# Altium integrated library Linear Technology PMIC-Switching Reg LT1074-LT8705.IntLib: 2252 symbols (part 80 of 124)
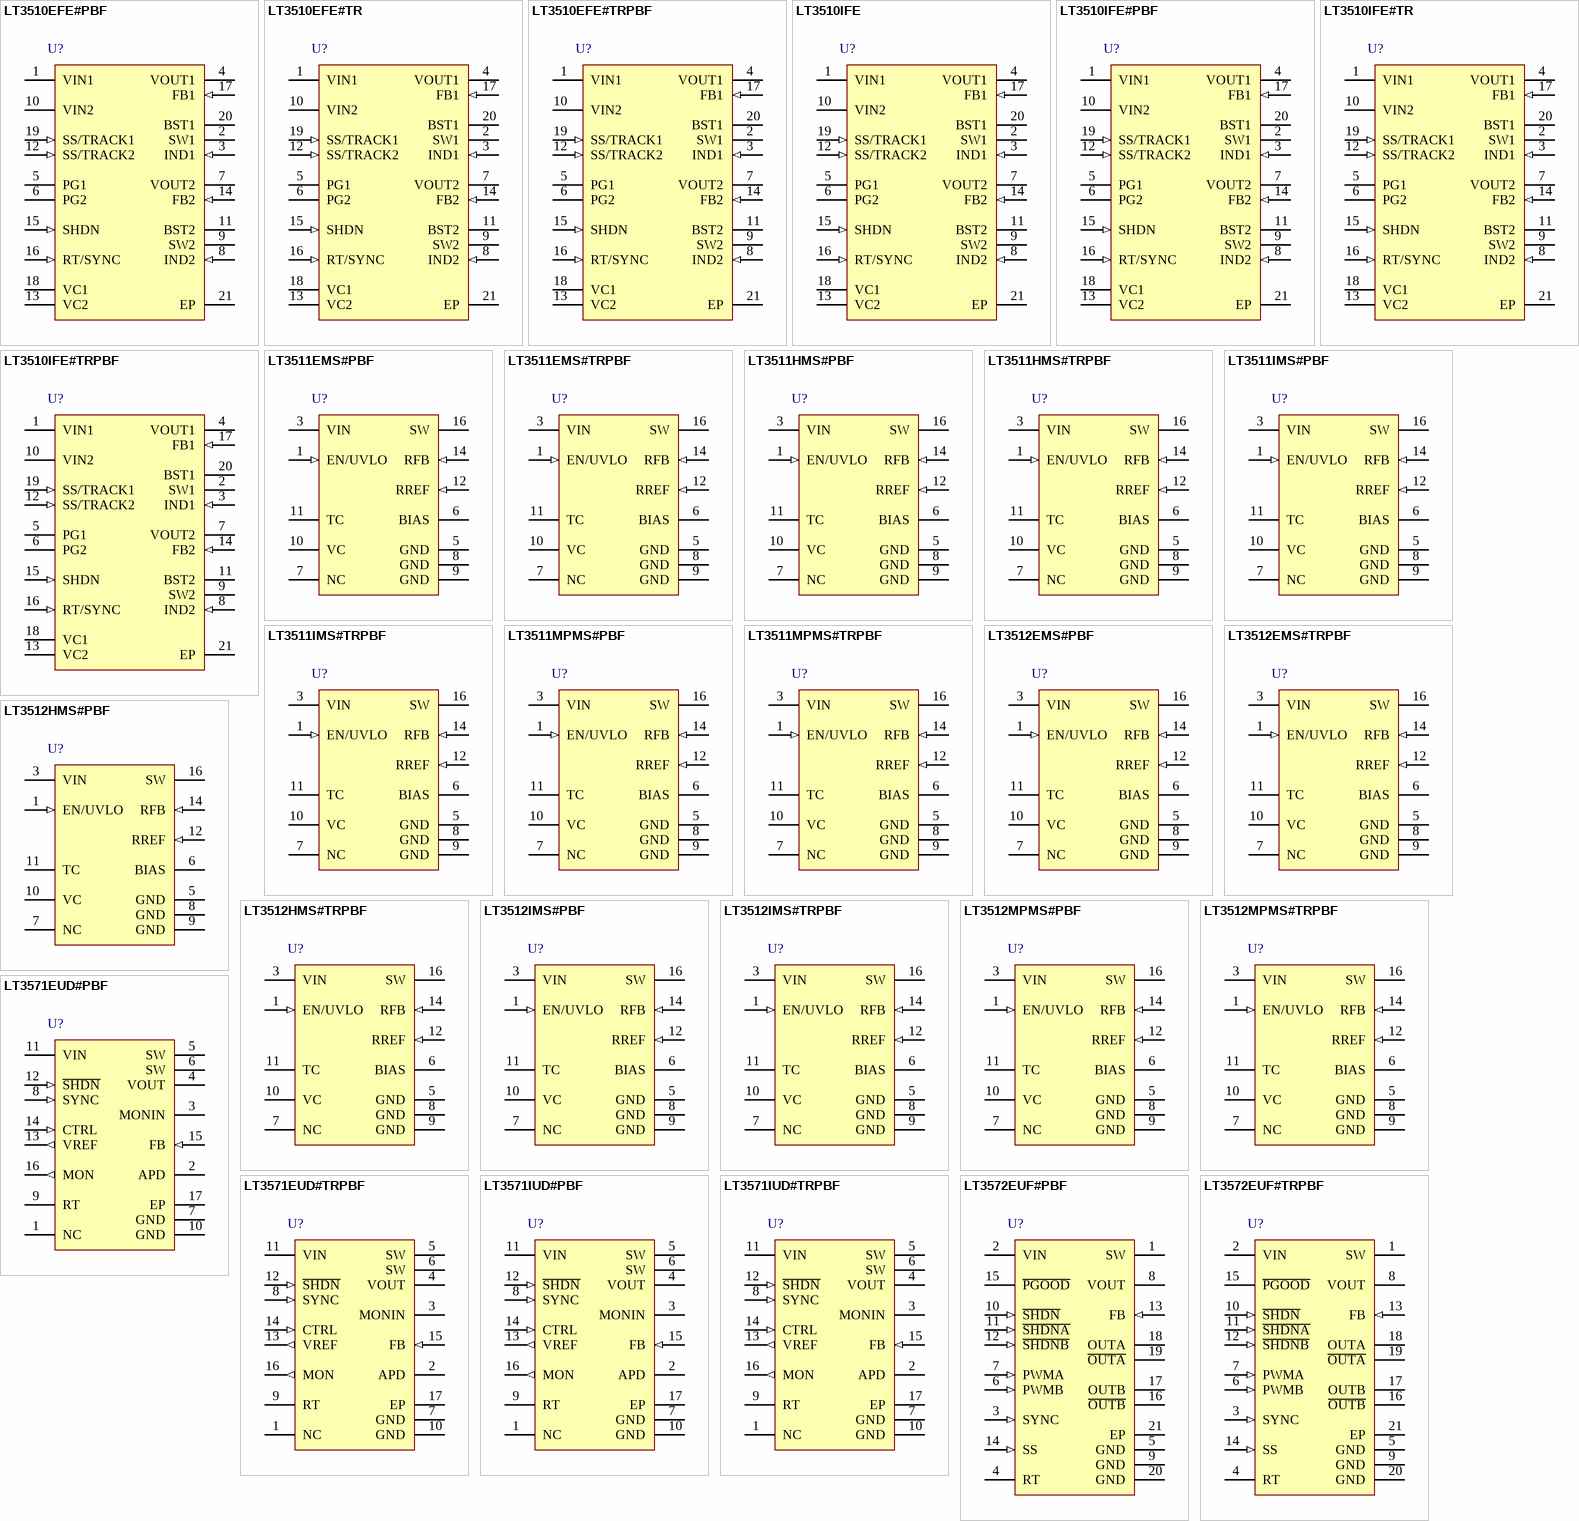
[diagram p150: symbols LT3510EFE#PBF to LT3572EUF#TRPBF]

## LT3571IUD#TRPBF
designator U?
DC/DC Converter for APD Bias, 16-pin QFN (UD-16), -40 to 125 degC, Pb-Free, Tape and Reel; Manufacturer: Linear Technology; PartNumber: LT3571IUD#TRPBF; Number of Outputs: 1; PackageReference: UD-16; PackageDescription: 16-Pin Plastic QFN, Body 3 x 3 mm, Pitch 0.5 mm; Supplier 1: Digi-Key; Supplier Part Number 1: LT3571IUD#TRPBF-ND; RoHS: TRUE
footprint LT-UD-16_N (QFN, 16-Leads, Body 3x3mm, Pitch 0.5mm, Thermal Pad 1.45x1.45mm, IPC Medium Density)
footprint LT-UD-16_L (QFN, 16-Leads, Body 3x3mm, Pitch 0.5mm, Thermal Pad 1.45x1.45mm, IPC High Density)
footprint LT-UD-16_M (QFN, 16-Leads, Body 3x3mm, Pitch 0.5mm, Thermal Pad 1.45x1.45mm, IPC Low Density)
pins: 1 NC "No Connect", 2 APD "APD Cathode Pin. Connect APD cathode to this pin.", 3 MONIN (power) "Current Monitor Power Supply Pin. An external lowpass filter can be included here to further reduce supply voltage ripple. This pin also serves as the inverting input of the current sense amplifier. Put a sense resistor (See Datasheet)", 4 VOUT (power) "Boost Output Pin. Put a capacitor between this pin and GND plane. Minimize the length of the trace to the capacitor. Also serves as the noninverting input of the current sense amplifier.", 5 SW "Switch Pin. Minimize the trace length on this pin to reduce EMI.", 6 SW "Switch Pin. Minimize the trace length on this pin to reduce EMI.", 7 GND (power) "Ground. Pins connected internally. For best performance, connect both pins to board ground.", 8 SYNC (in) "Frequency Synchronization Pin. Connect an external clock signal here. RT resistor should be chosen to program a switching frequency 20% slower than the SYNC pulse frequency. Synchronization (switch turn-on) occurs a fixed (See Datasheet)", 9 RT "Switching Frequency Pin. Set switching frequency using a resistor to GND (see Typical Performance Characteristics for values). For SYNC function, choose the resistor to program a frequency 20% slower than the SYNC pulse (See Datasheet)", 10 GND (power) "Ground. Pins connected internally. For best performance, connect both pins to board ground.", 11 VIN (power) "Input Supply Pin. This pin must be locally bypassed.", 12 ~{SHDN} (in) "Shutdown Pin. Tie to 1.5V or higher to enable device; 0.4V or less to disable device. Also functions as soft-start. Use RC filter as shown in Figure 1.", 13 VREF (out) "Reference Output Pin. This pin can supply up to 100uA. Do not over drive this pin. Bypass with a 10nF or larger capacitor.", 14 CTRL (in) "Internal Reference Override Pin. The CTRL pin allows the FB voltage to be externally adjusted between 0V and 1V to adjust the output voltage. Tie this pin higher than 1.2V to use the internal reference of 1V.", 15 FB (in) "Feedback Pin. Connect to output resistor divider tap.", 16 MON (out) "Current Monitor Output Pin. Sources a current equal to 20% of the APD current and converts to a reference voltage through an external resistor", 17 EP (power) "Ground. The Exposed Pad must be soldered to the PCB."

## LT3572EUF#PBF
designator U?
Dual Full-Bridge Piezo Driver with 900 mA Boost Converter, 20-pin QFN (UF-20), -40 to 85 degC, Pb-Free; Manufacturer: Linear Technology; PartNumber: LT3572EUF#PBF; Number of Outputs: 1; PackageReference: UF20; PackageDescription: 20-Pin Plastic QFN, Body 4 x 4 mm, Pitch 0.5 mm; Supplier 1: Digi-Key; Supplier Part Number 1: LT3572EUF#PBF-ND; RoHS: TRUE
footprint LT-UF-20_N (QFN, 20-Leads, Body 4.1x4.1mm, Pitch 0.5mm, Thermal Pad 2.45x2.45mm, IPC Medium Density)
footprint LT-UF-20_L (QFN, 20-Leads, Body 4.1x4.1mm, Pitch 0.5mm, Thermal Pad 2.45x2.45mm, IPC High Density)
footprint LT-UF-20_M (QFN, 20-Leads, Body 4.1x4.1mm, Pitch 0.5mm, Thermal Pad 2.45x2.45mm, IPC Low Density)
pins: 1 SW (power) "Switch Node. This pin connects to the collector of an internal NPN power switch.", 2 VIN (power) "Input Supply Pin. This pin must be locally bypassed with a capacitor.", 3 SYNC (in) "Synchronization Pin. This pin is used to synchronize the internal oscillator to an external signal. The synchronizing range is 15% above the free running frequency set by the RT pin up to 2.5MHz. If not used, this pin must (See Datasheet)", 4 RT "Frequency Set Pin. Place a resistor to GND to set the internal frequency. The range of oscillation is 500kHz to 2.25MHz.", 5 GND (power) "Ground.", 6 PWMB (in) "Logic Input for the Driver. A high signal on this input sets OUTB high and O\U\T\B\ low.", 7 PWMA (in) "Logic Input for the Driver. A high signal on this input sets OUTA high and O\U\T\A\ low.", 8 VOUT (power) "Output for the Switching Regulator and the Input Supply for the Drivers.", 9 GND (power) "Ground.", 10 ~{SHDN} (in) "Shutdown Pin. Tie to 1.5V or more to enable the switcher. Pull low to disable the switcher.", 11 ~{SHDNA} (in) "Shutdown Pin. Tie to 1.5V or more to enable OUTA and O\U\T\A\. Pull low to place OUTA and O\U\T\A\ in a high impedance state.", 12 ~{SHDNB} (in) "Shutdown Pin. Tie to 1.5V or more to enable OUTB and O\U\T\B\. Pull low to place OUTB and O\U\T\B\ in a high impedance state.", 13 FB (in) "Feedback Pin. The LT3572 regulates this pin to 1.225V. Connect the feedback resistors to this pin to set the output voltage for the switching regulator.", 14 SS (in) "Soft-Start Pin. Place a soft-start capacitor here. A capacitor on the soft-start pin slowly ramps the current limit of the part from 0A to 1.3A.", 15 ~{PGOOD} (hiz) "This pin is an open-drain output that pulls low when the FB pin is within 95% of its regulation value.", 16 ~{OUTB} (hiz) "The Output Driver. This node switches between VOUT and GND and is inverted from OUTB.", 17 OUTB (hiz) "The Output Driver. This node switches between VOUT and GND.", 18 OUTA (hiz) "The Output Driver. This node switches between VOUT and GND .", 19 ~{OUTA} (hiz) "The Output Driver. This node switches between VOUT and GND and is inverted from OUTA.", 20 GND (power) "Ground.", 21 EP (power) "Ground. The Exposed Pad of the package provides both electrical contact to ground and good thermal contact to the printed circuit board. The Exposed Pad must be soldered to the circuit board for proper operation."

## LT3572EUF#TRPBF
designator U?
Dual Full-Bridge Piezo Driver with 900 mA Boost Converter, 20-pin QFN (UF-20), -40 to 85 degC, Pb-Free, Tape and Reel; Manufacturer: Linear Technology; PartNumber: LT3572EUF#TRPBF; Number of Outputs: 1; PackageReference: UF20; PackageDescription: 20-Pin Plastic QFN, Body 4 x 4 mm, Pitch 0.5 mm; Supplier 1: Digi-Key; Supplier Part Number 1: LT3572EUF#TRPBF-ND; RoHS: TRUE
footprint LT-UF-20_N (QFN, 20-Leads, Body 4.1x4.1mm, Pitch 0.5mm, Thermal Pad 2.45x2.45mm, IPC Medium Density)
footprint LT-UF-20_L (QFN, 20-Leads, Body 4.1x4.1mm, Pitch 0.5mm, Thermal Pad 2.45x2.45mm, IPC High Density)
footprint LT-UF-20_M (QFN, 20-Leads, Body 4.1x4.1mm, Pitch 0.5mm, Thermal Pad 2.45x2.45mm, IPC Low Density)
pins: 1 SW (power) "Switch Node. This pin connects to the collector of an internal NPN power switch.", 2 VIN (power) "Input Supply Pin. This pin must be locally bypassed with a capacitor.", 3 SYNC (in) "Synchronization Pin. This pin is used to synchronize the internal oscillator to an external signal. The synchronizing range is 15% above the free running frequency set by the RT pin up to 2.5MHz. If not used, this pin must (See Datasheet)", 4 RT "Frequency Set Pin. Place a resistor to GND to set the internal frequency. The range of oscillation is 500kHz to 2.25MHz.", 5 GND (power) "Ground.", 6 PWMB (in) "Logic Input for the Driver. A high signal on this input sets OUTB high and O\U\T\B\ low.", 7 PWMA (in) "Logic Input for the Driver. A high signal on this input sets OUTA high and O\U\T\A\ low.", 8 VOUT (power) "Output for the Switching Regulator and the Input Supply for the Drivers.", 9 GND (power) "Ground.", 10 ~{SHDN} (in) "Shutdown Pin. Tie to 1.5V or more to enable the switcher. Pull low to disable the switcher.", 11 ~{SHDNA} (in) "Shutdown Pin. Tie to 1.5V or more to enable OUTA and O\U\T\A\. Pull low to place OUTA and O\U\T\A\ in a high impedance state.", 12 ~{SHDNB} (in) "Shutdown Pin. Tie to 1.5V or more to enable OUTB and O\U\T\B\. Pull low to place OUTB and O\U\T\B\ in a high impedance state.", 13 FB (in) "Feedback Pin. The LT3572 regulates this pin to 1.225V. Connect the feedback resistors to this pin to set the output voltage for the switching regulator.", 14 SS (in) "Soft-Start Pin. Place a soft-start capacitor here. A capacitor on the soft-start pin slowly ramps the current limit of the part from 0A to 1.3A.", 15 ~{PGOOD} (hiz) "This pin is an open-drain output that pulls low when the FB pin is within 95% of its regulation value.", 16 ~{OUTB} (hiz) "The Output Driver. This node switches between VOUT and GND and is inverted from OUTB.", 17 OUTB (hiz) "The Output Driver. This node switches between VOUT and GND.", 18 OUTA (hiz) "The Output Driver. This node switches between VOUT and GND .", 19 ~{OUTA} (hiz) "The Output Driver. This node switches between VOUT and GND and is inverted from OUTA.", 20 GND (power) "Ground.", 21 EP (power) "Ground. The Exposed Pad of the package provides both electrical contact to ground and good thermal contact to the printed circuit board. The Exposed Pad must be soldered to the circuit board for proper operation."

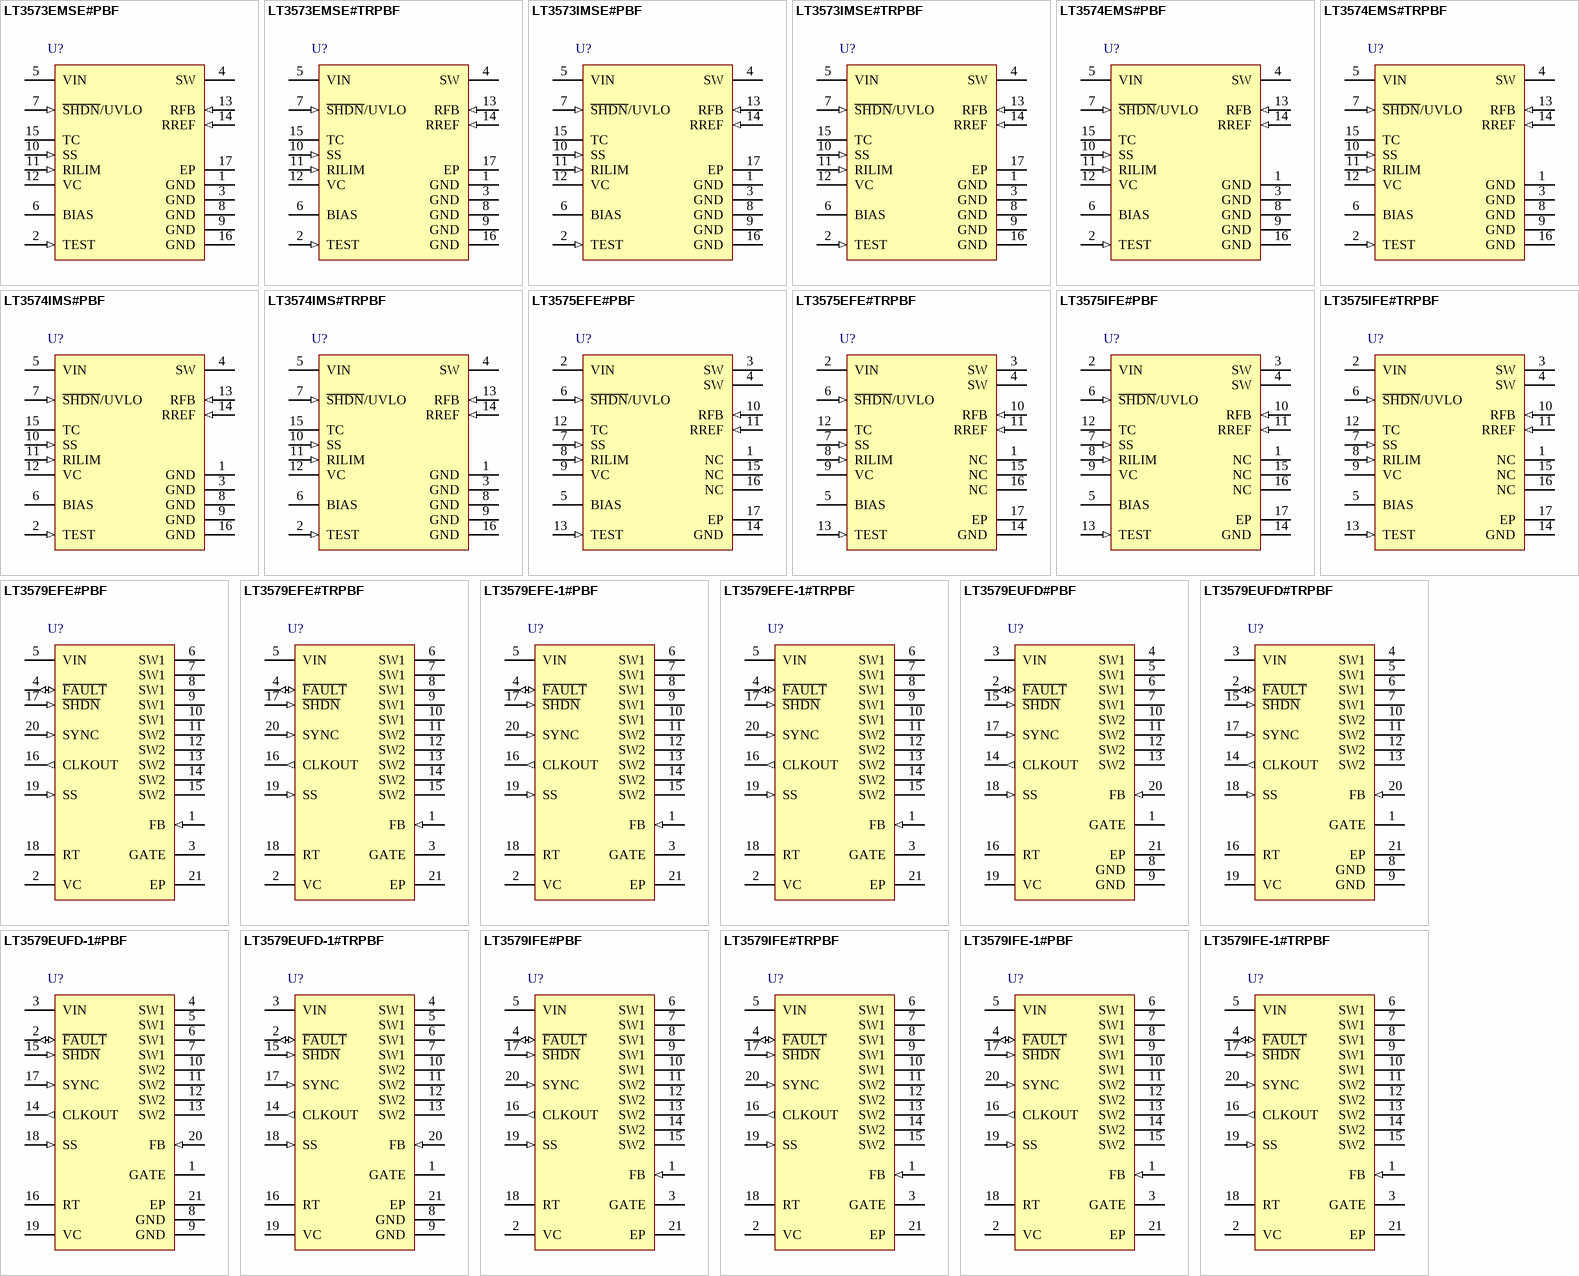
[diagram p48: symbols LT3573EMSE#PBF to LT3579IFE-1#TRPBF]

## LT3573EMSE#PBF
designator U?
Isolated Flyback Converter without an Opto-Coupler, 16-pin SOP (MSE-16-EDP), -40 to 125 deC, Pb-Free; Manufacturer: Linear Technology; PartNumber: LT3573EMSE#PBF; Number of Outputs: 1; PackageReference: MSE-16; PackageDescription: 16-Pin Plastic MSOP, Exposed Die Pad, Body 4.039 x 3 mm, Pitch 0.5 mm; Supplier 1: Digi-Key; Supplier Part Number 1: LT3573EMSE#PBF-ND; RoHS: TRUE
footprint LT-MSE-16-EDP_N (SOP, 16-Leads, Body 4.1x3.1mm, Pitch 0.5mm, Thermal Pad 2.95x1.76mm, IPC Medium Density)
footprint LT-MSE-16-EDP_L (SOP, 16-Leads, Body 4.1x3.1mm, Pitch 0.5mm, Thermal Pad 2.95x1.76mm, IPC High Density)
footprint LT-MSE-16-EDP_M (SOP, 16-Leads, Body 4.1x3.1mm, Pitch 0.5mm, Thermal Pad 2.95x1.76mm, IPC Low Density)
pins: 1 GND (power) "Ground.", 2 TEST (in) "This pin is used for testing purposes only and must be connected to ground for the part to operate properly.", 3 GND (power) "Ground.", 4 SW (power) "Collector Node of the Output Switch. This pin has large currents flowing through it. Keep the traces to the switching components as short as possible to minimize electromagnetic radiation and voltage spikes.", 5 VIN (power) "Input Voltage. This pin supplies current to the internal start-up circuitry and as a reference voltage for the DCM comparator and feedback circuitry. This pin must be locally bypassed with a capacitor.", 6 BIAS (power) "Bias Voltage. This pin supplies current to the switch driver and internal circuitry of the LT3573. This pin must be locally bypassed with a capacitor. This pin may also be connected to VIN if a third winding is not used and (See Datasheet)", 7 ~{SHDN}/UVLO (in) "Shutdown/Undervoltage Lockout. A resistor divider connected to VIN is tied to this pin to program the minimum input voltage at which the LT3573 will operate. At a voltage below ~0.7V, the part draws no quiescent current. (See Datasheet)", 8 GND (power) "Ground.", 9 GND (power) "Ground.", 10 SS (in) "Soft-Start Pin. Place a soft-start capacitor here to limit start-up inrush current and output voltage ramp rate. Switching starts when the voltage at this pin reaches ~0.7V.", 11 RILIM (in) "Maximum Current Limit Adjust Pin. A resistor should be tied to this pin to ground to set the current limit. Use a 10k resistor for the full current capabilities of the switch.", 12 VC "Compensation Pin for Internal Error Amplifier. Connect a series RC from this pin to ground to compensate the switching regulator. A 100pF capacitor in parallel helps eliminate noise.", 13 RFB (in) "Input Pin for External Feedback Resistor. This pin is connected to the transformer primary (VSW). The ratio of this resistor to the RREF resistor, times the internal bandgap reference, determines the output voltage (plus the (See Datasheet)", 14 RREF (in) "Input Pin for External Ground-Referred Reference Resistor. This resistor should be in the range of 6k, but for convenience, need not be precisely this value. For nonisolated applications, a traditional resistor voltage (See Datasheet)", 15 TC "Output Voltage Temperature Compensation. Connect a resistor to ground to produce a current proportional to absolute temperature to be sourced into the RREF node. ITC = 0.55V/RTC.", 16 GND (power) "Ground.", 17 EP (power) "Ground. The Exposed Pad of the package provides both electrical contact to ground and good thermal contact to the printed circuit board. The Exposed Pad must be soldered to the circuit board for proper operation and should (See Datasheet)"

## LT3573EMSE#TRPBF
designator U?
Isolated Flyback Converter without an Opto-Coupler, 16-pin SOP (MSE-16-EDP), -40 to 125 deC, Pb-Free, Tape and Reel; Manufacturer: Linear Technology; PartNumber: LT3573EMSE#TRPBF; Number of Outputs: 1; PackageReference: MSE-16; PackageDescription: 16-Pin Plastic MSOP, Exposed Die Pad, Body 4.039 x 3 mm, Pitch 0.5 mm; Supplier 1: Digi-Key; Supplier Part Number 1: LT3573EMSE#TRPBF-ND; RoHS: TRUE
footprint LT-MSE-16-EDP_N (SOP, 16-Leads, Body 4.1x3.1mm, Pitch 0.5mm, Thermal Pad 2.95x1.76mm, IPC Medium Density)
footprint LT-MSE-16-EDP_L (SOP, 16-Leads, Body 4.1x3.1mm, Pitch 0.5mm, Thermal Pad 2.95x1.76mm, IPC High Density)
footprint LT-MSE-16-EDP_M (SOP, 16-Leads, Body 4.1x3.1mm, Pitch 0.5mm, Thermal Pad 2.95x1.76mm, IPC Low Density)
pins: 1 GND (power) "Ground.", 2 TEST (in) "This pin is used for testing purposes only and must be connected to ground for the part to operate properly.", 3 GND (power) "Ground.", 4 SW (power) "Collector Node of the Output Switch. This pin has large currents flowing through it. Keep the traces to the switching components as short as possible to minimize electromagnetic radiation and voltage spikes.", 5 VIN (power) "Input Voltage. This pin supplies current to the internal start-up circuitry and as a reference voltage for the DCM comparator and feedback circuitry. This pin must be locally bypassed with a capacitor.", 6 BIAS (power) "Bias Voltage. This pin supplies current to the switch driver and internal circuitry of the LT3573. This pin must be locally bypassed with a capacitor. This pin may also be connected to VIN if a third winding is not used and (See Datasheet)", 7 ~{SHDN}/UVLO (in) "Shutdown/Undervoltage Lockout. A resistor divider connected to VIN is tied to this pin to program the minimum input voltage at which the LT3573 will operate. At a voltage below ~0.7V, the part draws no quiescent current. (See Datasheet)", 8 GND (power) "Ground.", 9 GND (power) "Ground.", 10 SS (in) "Soft-Start Pin. Place a soft-start capacitor here to limit start-up inrush current and output voltage ramp rate. Switching starts when the voltage at this pin reaches ~0.7V.", 11 RILIM (in) "Maximum Current Limit Adjust Pin. A resistor should be tied to this pin to ground to set the current limit. Use a 10k resistor for the full current capabilities of the switch.", 12 VC "Compensation Pin for Internal Error Amplifier. Connect a series RC from this pin to ground to compensate the switching regulator. A 100pF capacitor in parallel helps eliminate noise.", 13 RFB (in) "Input Pin for External Feedback Resistor. This pin is connected to the transformer primary (VSW). The ratio of this resistor to the RREF resistor, times the internal bandgap reference, determines the output voltage (plus the (See Datasheet)", 14 RREF (in) "Input Pin for External Ground-Referred Reference Resistor. This resistor should be in the range of 6k, but for convenience, need not be precisely this value. For nonisolated applications, a traditional resistor voltage (See Datasheet)", 15 TC "Output Voltage Temperature Compensation. Connect a resistor to ground to produce a current proportional to absolute temperature to be sourced into the RREF node. ITC = 0.55V/RTC.", 16 GND (power) "Ground.", 17 EP (power) "Ground. The Exposed Pad of the package provides both electrical contact to ground and good thermal contact to the printed circuit board. The Exposed Pad must be soldered to the circuit board for proper operation and should (See Datasheet)"

## LT3573IMSE#PBF
designator U?
Isolated Flyback Converter without an Opto-Coupler, 16-pin SOP (MSE-16-EDP), -40 to 125 deC, Pb-Free; Manufacturer: Linear Technology; PartNumber: LT3573IMSE#PBF; Number of Outputs: 1; PackageReference: MSE-16; PackageDescription: 16-Pin Plastic MSOP, Exposed Die Pad, Body 4.039 x 3 mm, Pitch 0.5 mm; Supplier 1: Digi-Key; Supplier Part Number 1: LT3573IMSE#PBF-ND; RoHS: TRUE
footprint LT-MSE-16-EDP_N (SOP, 16-Leads, Body 4.1x3.1mm, Pitch 0.5mm, Thermal Pad 2.95x1.76mm, IPC Medium Density)
footprint LT-MSE-16-EDP_L (SOP, 16-Leads, Body 4.1x3.1mm, Pitch 0.5mm, Thermal Pad 2.95x1.76mm, IPC High Density)
footprint LT-MSE-16-EDP_M (SOP, 16-Leads, Body 4.1x3.1mm, Pitch 0.5mm, Thermal Pad 2.95x1.76mm, IPC Low Density)
pins: 1 GND (power) "Ground.", 2 TEST (in) "This pin is used for testing purposes only and must be connected to ground for the part to operate properly.", 3 GND (power) "Ground.", 4 SW (power) "Collector Node of the Output Switch. This pin has large currents flowing through it. Keep the traces to the switching components as short as possible to minimize electromagnetic radiation and voltage spikes.", 5 VIN (power) "Input Voltage. This pin supplies current to the internal start-up circuitry and as a reference voltage for the DCM comparator and feedback circuitry. This pin must be locally bypassed with a capacitor.", 6 BIAS (power) "Bias Voltage. This pin supplies current to the switch driver and internal circuitry of the LT3573. This pin must be locally bypassed with a capacitor. This pin may also be connected to VIN if a third winding is not used and (See Datasheet)", 7 ~{SHDN}/UVLO (in) "Shutdown/Undervoltage Lockout. A resistor divider connected to VIN is tied to this pin to program the minimum input voltage at which the LT3573 will operate. At a voltage below ~0.7V, the part draws no quiescent current. (See Datasheet)", 8 GND (power) "Ground.", 9 GND (power) "Ground.", 10 SS (in) "Soft-Start Pin. Place a soft-start capacitor here to limit start-up inrush current and output voltage ramp rate. Switching starts when the voltage at this pin reaches ~0.7V.", 11 RILIM (in) "Maximum Current Limit Adjust Pin. A resistor should be tied to this pin to ground to set the current limit. Use a 10k resistor for the full current capabilities of the switch.", 12 VC "Compensation Pin for Internal Error Amplifier. Connect a series RC from this pin to ground to compensate the switching regulator. A 100pF capacitor in parallel helps eliminate noise.", 13 RFB (in) "Input Pin for External Feedback Resistor. This pin is connected to the transformer primary (VSW). The ratio of this resistor to the RREF resistor, times the internal bandgap reference, determines the output voltage (plus the (See Datasheet)", 14 RREF (in) "Input Pin for External Ground-Referred Reference Resistor. This resistor should be in the range of 6k, but for convenience, need not be precisely this value. For nonisolated applications, a traditional resistor voltage (See Datasheet)", 15 TC "Output Voltage Temperature Compensation. Connect a resistor to ground to produce a current proportional to absolute temperature to be sourced into the RREF node. ITC = 0.55V/RTC.", 16 GND (power) "Ground.", 17 EP (power) "Ground. The Exposed Pad of the package provides both electrical contact to ground and good thermal contact to the printed circuit board. The Exposed Pad must be soldered to the circuit board for proper operation and should (See Datasheet)"

## LT3573IMSE#TRPBF
designator U?
Isolated Flyback Converter without an Opto-Coupler, 16-pin SOP (MSE-16-EDP), -40 to 125 deC, Pb-Free, Tape and Reel; Manufacturer: Linear Technology; PartNumber: LT3573IMSE#TRPBF; Number of Outputs: 1; PackageReference: MSE-16; PackageDescription: 16-Pin Plastic MSOP, Exposed Die Pad, Body 4.039 x 3 mm, Pitch 0.5 mm; Supplier 1: Digi-Key; Supplier Part Number 1: LT3573IMSE#TRPBF-ND; RoHS: TRUE
footprint LT-MSE-16-EDP_N (SOP, 16-Leads, Body 4.1x3.1mm, Pitch 0.5mm, Thermal Pad 2.95x1.76mm, IPC Medium Density)
footprint LT-MSE-16-EDP_L (SOP, 16-Leads, Body 4.1x3.1mm, Pitch 0.5mm, Thermal Pad 2.95x1.76mm, IPC High Density)
footprint LT-MSE-16-EDP_M (SOP, 16-Leads, Body 4.1x3.1mm, Pitch 0.5mm, Thermal Pad 2.95x1.76mm, IPC Low Density)
pins: 1 GND (power) "Ground.", 2 TEST (in) "This pin is used for testing purposes only and must be connected to ground for the part to operate properly.", 3 GND (power) "Ground.", 4 SW (power) "Collector Node of the Output Switch. This pin has large currents flowing through it. Keep the traces to the switching components as short as possible to minimize electromagnetic radiation and voltage spikes.", 5 VIN (power) "Input Voltage. This pin supplies current to the internal start-up circuitry and as a reference voltage for the DCM comparator and feedback circuitry. This pin must be locally bypassed with a capacitor.", 6 BIAS (power) "Bias Voltage. This pin supplies current to the switch driver and internal circuitry of the LT3573. This pin must be locally bypassed with a capacitor. This pin may also be connected to VIN if a third winding is not used and (See Datasheet)", 7 ~{SHDN}/UVLO (in) "Shutdown/Undervoltage Lockout. A resistor divider connected to VIN is tied to this pin to program the minimum input voltage at which the LT3573 will operate. At a voltage below ~0.7V, the part draws no quiescent current. (See Datasheet)", 8 GND (power) "Ground.", 9 GND (power) "Ground.", 10 SS (in) "Soft-Start Pin. Place a soft-start capacitor here to limit start-up inrush current and output voltage ramp rate. Switching starts when the voltage at this pin reaches ~0.7V.", 11 RILIM (in) "Maximum Current Limit Adjust Pin. A resistor should be tied to this pin to ground to set the current limit. Use a 10k resistor for the full current capabilities of the switch.", 12 VC "Compensation Pin for Internal Error Amplifier. Connect a series RC from this pin to ground to compensate the switching regulator. A 100pF capacitor in parallel helps eliminate noise.", 13 RFB (in) "Input Pin for External Feedback Resistor. This pin is connected to the transformer primary (VSW). The ratio of this resistor to the RREF resistor, times the internal bandgap reference, determines the output voltage (plus the (See Datasheet)", 14 RREF (in) "Input Pin for External Ground-Referred Reference Resistor. This resistor should be in the range of 6k, but for convenience, need not be precisely this value. For nonisolated applications, a traditional resistor voltage (See Datasheet)", 15 TC "Output Voltage Temperature Compensation. Connect a resistor to ground to produce a current proportional to absolute temperature to be sourced into the RREF node. ITC = 0.55V/RTC.", 16 GND (power) "Ground.", 17 EP (power) "Ground. The Exposed Pad of the package provides both electrical contact to ground and good thermal contact to the printed circuit board. The Exposed Pad must be soldered to the circuit board for proper operation and should (See Datasheet)"

## LT3574EMS#PBF
designator U?
Isolated Flyback Converter without an Opto-Coupler, 16-pin SOP (MS-16), -40 to 125 deC, Pb-Free; Manufacturer: Linear Technology; PartNumber: LT3574EMS#PBF; Number of Outputs: 1; PackageReference: MS16; PackageDescription: 16-Pin Plastic MSOP, Body 4.04 x 3.00 mm, Pitch 0.50 mm; Supplier 1: Digi-Key; Supplier Part Number 1: LT3574EMS#PBF-ND; RoHS: TRUE
footprint LT-MS-16_N (SOP, 16-Leads, Body 4.1x3.1mm, Pitch 0.5mm, IPC Medium Density)
footprint LT-MS-16_L (SOP, 16-Leads, Body 4.1x3.1mm, Pitch 0.5mm, IPC High Density)
footprint LT-MS-16_M (SOP, 16-Leads, Body 4.1x3.1mm, Pitch 0.5mm, IPC Low Density)
pins: 1 GND (power) "Ground.", 2 TEST (in) "This pin is used for testing purposes only and must be connected to ground for the part to operate properly.", 3 GND (power) "Ground.", 4 SW (power) "Collector Node of the Output Switch. This pin has large currents flowing through it. Keep the traces to the switching components as short as possible to minimize electromagnetic radiation and voltage spikes.", 5 VIN (power) "Input Voltage. This pin supplies current to the internal start-up circuitry and as a reference voltage for the DCM comparator and feedback circuitry. This pin must be locally bypassed with a capacitor.", 6 BIAS (power) "Bias Voltage. This pin supplies current to the switch driver and internal circuitry of the LT3574. This pin must be locally bypassed with a capacitor. This pin may also be connected to VIN if a third winding is not used and (See Datasheet)", 7 ~{SHDN}/UVLO (in) "Shutdown/Undervoltage Lockout. A resistor divider connected to VIN is tied to this pin to program the minimum input voltage at which the LT3574 will operate. At a voltage below ~0.7V, the part draws no quiescent current. (See Datasheet)", 8 GND (power) "Ground.", 9 GND (power) "Ground.", 10 SS (in) "Soft-Start Pin. Place a soft-start capacitor here to limit start-up inrush current and output voltage ramp rate. Switching starts when the voltage at this pin reaches ~0.7V.", 11 RILIM (in) "Maximum Current Limit Adjust Pin. A resistor should be tied to this pin to ground to set the current limit. Use a 10k resistor for the full current capabilities of the switch.", 12 VC "Compensation Pin for Internal Error Amplifier. Connect a series RC from this pin to ground to compensate the switching regulator. A 100pF capacitor in parallel helps eliminate noise.", 13 RFB (in) "Input Pin for External Feedback Resistor. This pin is connected to the transformer primary (VSW). The ratio of this resistor to the RREF resistor, times the internal bandgap reference, determines the output voltage (plus the (See Datasheet)", 14 RREF (in) "Input Pin for External Ground-Referred Reference Resistor. This resistor should be in the range of 6k, but for convenience, need not be precisely this value. For nonisolated applications, a traditional resistor voltage (See Datasheet)", 15 TC "Output Voltage Temperature Compensation. Connect a resistor to ground to produce a current proportional to absolute temperature to be sourced into the RREF node. ITC = 0.55V/RTC.", 16 GND (power) "Ground."

## LT3574EMS#TRPBF
designator U?
Isolated Flyback Converter without an Opto-Coupler, 16-pin SOP (MS-16), -40 to 125 deC, Pb-Free, Tape and Reel; Manufacturer: Linear Technology; PartNumber: LT3574EMS#TRPBF; Number of Outputs: 1; PackageReference: MS16; PackageDescription: 16-Pin Plastic MSOP, Body 4.04 x 3.00 mm, Pitch 0.50 mm; Supplier 1: Digi-Key; Supplier Part Number 1: LT3574EMS#TRPBF-ND; RoHS: TRUE
footprint LT-MS-16_N (SOP, 16-Leads, Body 4.1x3.1mm, Pitch 0.5mm, IPC Medium Density)
footprint LT-MS-16_L (SOP, 16-Leads, Body 4.1x3.1mm, Pitch 0.5mm, IPC High Density)
footprint LT-MS-16_M (SOP, 16-Leads, Body 4.1x3.1mm, Pitch 0.5mm, IPC Low Density)
pins: 1 GND (power) "Ground.", 2 TEST (in) "This pin is used for testing purposes only and must be connected to ground for the part to operate properly.", 3 GND (power) "Ground.", 4 SW (power) "Collector Node of the Output Switch. This pin has large currents flowing through it. Keep the traces to the switching components as short as possible to minimize electromagnetic radiation and voltage spikes.", 5 VIN (power) "Input Voltage. This pin supplies current to the internal start-up circuitry and as a reference voltage for the DCM comparator and feedback circuitry. This pin must be locally bypassed with a capacitor.", 6 BIAS (power) "Bias Voltage. This pin supplies current to the switch driver and internal circuitry of the LT3574. This pin must be locally bypassed with a capacitor. This pin may also be connected to VIN if a third winding is not used and (See Datasheet)", 7 ~{SHDN}/UVLO (in) "Shutdown/Undervoltage Lockout. A resistor divider connected to VIN is tied to this pin to program the minimum input voltage at which the LT3574 will operate. At a voltage below ~0.7V, the part draws no quiescent current. (See Datasheet)", 8 GND (power) "Ground.", 9 GND (power) "Ground.", 10 SS (in) "Soft-Start Pin. Place a soft-start capacitor here to limit start-up inrush current and output voltage ramp rate. Switching starts when the voltage at this pin reaches ~0.7V.", 11 RILIM (in) "Maximum Current Limit Adjust Pin. A resistor should be tied to this pin to ground to set the current limit. Use a 10k resistor for the full current capabilities of the switch.", 12 VC "Compensation Pin for Internal Error Amplifier. Connect a series RC from this pin to ground to compensate the switching regulator. A 100pF capacitor in parallel helps eliminate noise.", 13 RFB (in) "Input Pin for External Feedback Resistor. This pin is connected to the transformer primary (VSW). The ratio of this resistor to the RREF resistor, times the internal bandgap reference, determines the output voltage (plus the (See Datasheet)", 14 RREF (in) "Input Pin for External Ground-Referred Reference Resistor. This resistor should be in the range of 6k, but for convenience, need not be precisely this value. For nonisolated applications, a traditional resistor voltage (See Datasheet)", 15 TC "Output Voltage Temperature Compensation. Connect a resistor to ground to produce a current proportional to absolute temperature to be sourced into the RREF node. ITC = 0.55V/RTC.", 16 GND (power) "Ground."

## LT3574IMS#PBF
designator U?
Isolated Flyback Converter without an Opto-Coupler, 16-pin SOP (MS-16), -40 to 125 deC, Pb-Free; Manufacturer: Linear Technology; PartNumber: LT3574IMS#PBF; Number of Outputs: 1; PackageReference: MS16; PackageDescription: 16-Pin Plastic MSOP, Body 4.04 x 3.00 mm, Pitch 0.50 mm; Supplier 1: Digi-Key; Supplier Part Number 1: LT3574IMS#PBF-ND; RoHS: TRUE
footprint LT-MS-16_N (SOP, 16-Leads, Body 4.1x3.1mm, Pitch 0.5mm, IPC Medium Density)
footprint LT-MS-16_L (SOP, 16-Leads, Body 4.1x3.1mm, Pitch 0.5mm, IPC High Density)
footprint LT-MS-16_M (SOP, 16-Leads, Body 4.1x3.1mm, Pitch 0.5mm, IPC Low Density)
pins: 1 GND (power) "Ground.", 2 TEST (in) "This pin is used for testing purposes only and must be connected to ground for the part to operate properly.", 3 GND (power) "Ground.", 4 SW (power) "Collector Node of the Output Switch. This pin has large currents flowing through it. Keep the traces to the switching components as short as possible to minimize electromagnetic radiation and voltage spikes.", 5 VIN (power) "Input Voltage. This pin supplies current to the internal start-up circuitry and as a reference voltage for the DCM comparator and feedback circuitry. This pin must be locally bypassed with a capacitor.", 6 BIAS (power) "Bias Voltage. This pin supplies current to the switch driver and internal circuitry of the LT3574. This pin must be locally bypassed with a capacitor. This pin may also be connected to VIN if a third winding is not used and (See Datasheet)", 7 ~{SHDN}/UVLO (in) "Shutdown/Undervoltage Lockout. A resistor divider connected to VIN is tied to this pin to program the minimum input voltage at which the LT3574 will operate. At a voltage below ~0.7V, the part draws no quiescent current. (See Datasheet)", 8 GND (power) "Ground.", 9 GND (power) "Ground.", 10 SS (in) "Soft-Start Pin. Place a soft-start capacitor here to limit start-up inrush current and output voltage ramp rate. Switching starts when the voltage at this pin reaches ~0.7V.", 11 RILIM (in) "Maximum Current Limit Adjust Pin. A resistor should be tied to this pin to ground to set the current limit. Use a 10k resistor for the full current capabilities of the switch.", 12 VC "Compensation Pin for Internal Error Amplifier. Connect a series RC from this pin to ground to compensate the switching regulator. A 100pF capacitor in parallel helps eliminate noise.", 13 RFB (in) "Input Pin for External Feedback Resistor. This pin is connected to the transformer primary (VSW). The ratio of this resistor to the RREF resistor, times the internal bandgap reference, determines the output voltage (plus the (See Datasheet)", 14 RREF (in) "Input Pin for External Ground-Referred Reference Resistor. This resistor should be in the range of 6k, but for convenience, need not be precisely this value. For nonisolated applications, a traditional resistor voltage (See Datasheet)", 15 TC "Output Voltage Temperature Compensation. Connect a resistor to ground to produce a current proportional to absolute temperature to be sourced into the RREF node. ITC = 0.55V/RTC.", 16 GND (power) "Ground."

## LT3574IMS#TRPBF
designator U?
Isolated Flyback Converter without an Opto-Coupler, 16-pin SOP (MS-16), -40 to 125 deC, Pb-Free, Tape and Reel; Manufacturer: Linear Technology; PartNumber: LT3574IMS#TRPBF; Number of Outputs: 1; PackageReference: MS16; PackageDescription: 16-Pin Plastic MSOP, Body 4.04 x 3.00 mm, Pitch 0.50 mm; Supplier 1: Digi-Key; Supplier Part Number 1: LT3574IMS#TRPBF-ND; RoHS: TRUE
footprint LT-MS-16_N (SOP, 16-Leads, Body 4.1x3.1mm, Pitch 0.5mm, IPC Medium Density)
footprint LT-MS-16_L (SOP, 16-Leads, Body 4.1x3.1mm, Pitch 0.5mm, IPC High Density)
footprint LT-MS-16_M (SOP, 16-Leads, Body 4.1x3.1mm, Pitch 0.5mm, IPC Low Density)
pins: 1 GND (power) "Ground.", 2 TEST (in) "This pin is used for testing purposes only and must be connected to ground for the part to operate properly.", 3 GND (power) "Ground.", 4 SW (power) "Collector Node of the Output Switch. This pin has large currents flowing through it. Keep the traces to the switching components as short as possible to minimize electromagnetic radiation and voltage spikes.", 5 VIN (power) "Input Voltage. This pin supplies current to the internal start-up circuitry and as a reference voltage for the DCM comparator and feedback circuitry. This pin must be locally bypassed with a capacitor.", 6 BIAS (power) "Bias Voltage. This pin supplies current to the switch driver and internal circuitry of the LT3574. This pin must be locally bypassed with a capacitor. This pin may also be connected to VIN if a third winding is not used and (See Datasheet)", 7 ~{SHDN}/UVLO (in) "Shutdown/Undervoltage Lockout. A resistor divider connected to VIN is tied to this pin to program the minimum input voltage at which the LT3574 will operate. At a voltage below ~0.7V, the part draws no quiescent current. (See Datasheet)", 8 GND (power) "Ground.", 9 GND (power) "Ground.", 10 SS (in) "Soft-Start Pin. Place a soft-start capacitor here to limit start-up inrush current and output voltage ramp rate. Switching starts when the voltage at this pin reaches ~0.7V.", 11 RILIM (in) "Maximum Current Limit Adjust Pin. A resistor should be tied to this pin to ground to set the current limit. Use a 10k resistor for the full current capabilities of the switch.", 12 VC "Compensation Pin for Internal Error Amplifier. Connect a series RC from this pin to ground to compensate the switching regulator. A 100pF capacitor in parallel helps eliminate noise.", 13 RFB (in) "Input Pin for External Feedback Resistor. This pin is connected to the transformer primary (VSW). The ratio of this resistor to the RREF resistor, times the internal bandgap reference, determines the output voltage (plus the (See Datasheet)", 14 RREF (in) "Input Pin for External Ground-Referred Reference Resistor. This resistor should be in the range of 6k, but for convenience, need not be precisely this value. For nonisolated applications, a traditional resistor voltage (See Datasheet)", 15 TC "Output Voltage Temperature Compensation. Connect a resistor to ground to produce a current proportional to absolute temperature to be sourced into the RREF node. ITC = 0.55V/RTC.", 16 GND (power) "Ground."

## LT3575EFE#PBF
designator U?
Isolated Flyback Converter without an Opto-Coupler, 16-pin SOP (FE-16-EPV-BA), -40 to 125 deC, Pb-Free; Manufacturer: Linear Technology; PartNumber: LT3575EFE#PBF; Number of Outputs: 1; PackageReference: FE-16; PackageDescription: 16-Pin Plastic TSSOP, Body 5 x 4.4 mm, Pitch 0.65 mm; Supplier 1: Digi-Key; Supplier Part Number 1: LT3575EFE#PBF-ND; RoHS: TRUE
footprint LT-FE-16-EPV-BA_N (SOP, 16-Leads, Body 5x4.4mm, Pitch 0.65mm, Thermal Pad 2.74x2.74mm, IPC Medium Density)
footprint LT-FE-16-EPV-BA_L (SOP, 16-Leads, Body 5x4.4mm, Pitch 0.65mm, Thermal Pad 2.74x2.74mm, IPC High Density)
footprint LT-FE-16-EPV-BA_M (SOP, 16-Leads, Body 5x4.4mm, Pitch 0.65mm, Thermal Pad 2.74x2.74mm, IPC Low Density)
pins: 1 NC "No Connect Pins. Can be left open or connected to any ground plane.", 2 VIN (power) "Input Voltage. This pin supplies current to the internal start-up circuitry and as a reference voltage for the DCM comparator and feedback circuitry. This pin must be locally bypassed with a capacitor.", 3 SW (power) "Collector Node of the Output Switch. This pin has large currents flowing through it. Keep the traces to the switching components as short as possible to minimize electromagnetic radiation and voltage spikes.", 4 SW (power) "Collector Node of the Output Switch. This pin has large currents flowing through it. Keep the traces to the switching components as short as possible to minimize electromagnetic radiation and voltage spikes.", 5 BIAS (power) "Bias Voltage. This pin supplies current to the switch driver and internal circuitry of the LT3575. This pin must be locally bypassed with a capacitor. This pin may also be connected to VIN if a third winding is not used and (See Datasheet)", 6 ~{SHDN}/UVLO (in) "Shutdown/Undervoltage Lockout. A resistor divider connected to VIN is tied to this pin to program the minimum input voltage at which the LT3575 will operate. At a voltage below ~0.7V, the part draws no quiescent current. (See Datasheet)", 7 SS (in) "Soft-Start Pin. Place a soft-start capacitor here to limit start-up inrush current and output voltage ramp rate. Switching starts when the voltage at this pin reaches ~0.7V.", 8 RILIM (in) "Maximum Current Limit Adjust Pin. A resistor should be tied to this pin to ground to set the current limit. Use a 10k resistor for the full current capabilities of the switch.", 9 VC "Compensation Pin for Internal Error Amplifier. Connect a series RC from this pin to ground to compensate the switching regulator. A 100pF capacitor in parallel helps eliminate noise.", 10 RFB (in) "Input Pin for External Feedback Resistor. This pin is connected to the transformer primary (VSW). The ratio of this resistor to the RREF resistor, times the internal bandgap reference, determines the output voltage (plus the (See Datasheet)", 11 RREF (in) "Input Pin for External Ground-Referred Reference Resistor. This resistor should be in the range of 6k, but for convenience, need not be precisely this value. For nonisolated applications, a traditional resistor voltage (See Datasheet)", 12 TC "Output Voltage Temperature Compensation. Connect a resistor to ground to produce a current proportional to absolute temperature to be sourced into the RREF node. ITC = 0.55V/RTC.", 13 TEST (in) "This pin is used for testing purposes only and must be connected to ground for the part to operate properly.", 14 GND (power) "Ground. The exposed pad of the package provides both electrical contact to ground and good thermal contact to the printed circuit board. The exposed pad must be soldered to the circuit board for proper operation and should (See Datasheet)", 15 NC "No Connect Pins. Can be left open or connected to any ground plane.", 16 NC "No Connect Pins. Can be left open or connected to any ground plane.", 17 EP (power) "Ground. The exposed pad of the package provides both electrical contact to ground and good thermal contact to the printed circuit board. The exposed pad must be soldered to the circuit board for proper operation and should (See Datasheet)"

## LT3575EFE#TRPBF
designator U?
Isolated Flyback Converter without an Opto-Coupler, 16-pin SOP (FE-16-EPV-BA), -40 to 125 deC, Pb-Free, Tape and Reel; Manufacturer: Linear Technology; PartNumber: LT3575EFE#TRPBF; Number of Outputs: 1; PackageReference: FE-16; PackageDescription: 16-Pin Plastic TSSOP, Body 5 x 4.4 mm, Pitch 0.65 mm; Supplier 1: Digi-Key; Supplier Part Number 1: LT3575EFE#TRPBF-ND; RoHS: TRUE
footprint LT-FE-16-EPV-BA_N (SOP, 16-Leads, Body 5x4.4mm, Pitch 0.65mm, Thermal Pad 2.74x2.74mm, IPC Medium Density)
footprint LT-FE-16-EPV-BA_L (SOP, 16-Leads, Body 5x4.4mm, Pitch 0.65mm, Thermal Pad 2.74x2.74mm, IPC High Density)
footprint LT-FE-16-EPV-BA_M (SOP, 16-Leads, Body 5x4.4mm, Pitch 0.65mm, Thermal Pad 2.74x2.74mm, IPC Low Density)
pins: 1 NC "No Connect Pins. Can be left open or connected to any ground plane.", 2 VIN (power) "Input Voltage. This pin supplies current to the internal start-up circuitry and as a reference voltage for the DCM comparator and feedback circuitry. This pin must be locally bypassed with a capacitor.", 3 SW (power) "Collector Node of the Output Switch. This pin has large currents flowing through it. Keep the traces to the switching components as short as possible to minimize electromagnetic radiation and voltage spikes.", 4 SW (power) "Collector Node of the Output Switch. This pin has large currents flowing through it. Keep the traces to the switching components as short as possible to minimize electromagnetic radiation and voltage spikes.", 5 BIAS (power) "Bias Voltage. This pin supplies current to the switch driver and internal circuitry of the LT3575. This pin must be locally bypassed with a capacitor. This pin may also be connected to VIN if a third winding is not used and (See Datasheet)", 6 ~{SHDN}/UVLO (in) "Shutdown/Undervoltage Lockout. A resistor divider connected to VIN is tied to this pin to program the minimum input voltage at which the LT3575 will operate. At a voltage below ~0.7V, the part draws no quiescent current. (See Datasheet)", 7 SS (in) "Soft-Start Pin. Place a soft-start capacitor here to limit start-up inrush current and output voltage ramp rate. Switching starts when the voltage at this pin reaches ~0.7V.", 8 RILIM (in) "Maximum Current Limit Adjust Pin. A resistor should be tied to this pin to ground to set the current limit. Use a 10k resistor for the full current capabilities of the switch.", 9 VC "Compensation Pin for Internal Error Amplifier. Connect a series RC from this pin to ground to compensate the switching regulator. A 100pF capacitor in parallel helps eliminate noise.", 10 RFB (in) "Input Pin for External Feedback Resistor. This pin is connected to the transformer primary (VSW). The ratio of this resistor to the RREF resistor, times the internal bandgap reference, determines the output voltage (plus the (See Datasheet)", 11 RREF (in) "Input Pin for External Ground-Referred Reference Resistor. This resistor should be in the range of 6k, but for convenience, need not be precisely this value. For nonisolated applications, a traditional resistor voltage (See Datasheet)", 12 TC "Output Voltage Temperature Compensation. Connect a resistor to ground to produce a current proportional to absolute temperature to be sourced into the RREF node. ITC = 0.55V/RTC.", 13 TEST (in) "This pin is used for testing purposes only and must be connected to ground for the part to operate properly.", 14 GND (power) "Ground. The exposed pad of the package provides both electrical contact to ground and good thermal contact to the printed circuit board. The exposed pad must be soldered to the circuit board for proper operation and should (See Datasheet)", 15 NC "No Connect Pins. Can be left open or connected to any ground plane.", 16 NC "No Connect Pins. Can be left open or connected to any ground plane.", 17 EP (power) "Ground. The exposed pad of the package provides both electrical contact to ground and good thermal contact to the printed circuit board. The exposed pad must be soldered to the circuit board for proper operation and should (See Datasheet)"

## LT3575IFE#PBF
designator U?
Isolated Flyback Converter without an Opto-Coupler, 16-pin SOP (FE-16-EPV-BA), -40 to 125 deC, Pb-Free; Manufacturer: Linear Technology; PartNumber: LT3575IFE#PBF; Number of Outputs: 1; PackageReference: FE-16; PackageDescription: 16-Pin Plastic TSSOP, Body 5 x 4.4 mm, Pitch 0.65 mm; Supplier 1: Digi-Key; Supplier Part Number 1: LT3575IFE#PBF-ND; RoHS: TRUE
footprint LT-FE-16-EPV-BA_N (SOP, 16-Leads, Body 5x4.4mm, Pitch 0.65mm, Thermal Pad 2.74x2.74mm, IPC Medium Density)
footprint LT-FE-16-EPV-BA_L (SOP, 16-Leads, Body 5x4.4mm, Pitch 0.65mm, Thermal Pad 2.74x2.74mm, IPC High Density)
footprint LT-FE-16-EPV-BA_M (SOP, 16-Leads, Body 5x4.4mm, Pitch 0.65mm, Thermal Pad 2.74x2.74mm, IPC Low Density)
pins: 1 NC "No Connect Pins. Can be left open or connected to any ground plane.", 2 VIN (power) "Input Voltage. This pin supplies current to the internal start-up circuitry and as a reference voltage for the DCM comparator and feedback circuitry. This pin must be locally bypassed with a capacitor.", 3 SW (power) "Collector Node of the Output Switch. This pin has large currents flowing through it. Keep the traces to the switching components as short as possible to minimize electromagnetic radiation and voltage spikes.", 4 SW (power) "Collector Node of the Output Switch. This pin has large currents flowing through it. Keep the traces to the switching components as short as possible to minimize electromagnetic radiation and voltage spikes.", 5 BIAS (power) "Bias Voltage. This pin supplies current to the switch driver and internal circuitry of the LT3575. This pin must be locally bypassed with a capacitor. This pin may also be connected to VIN if a third winding is not used and (See Datasheet)", 6 ~{SHDN}/UVLO (in) "Shutdown/Undervoltage Lockout. A resistor divider connected to VIN is tied to this pin to program the minimum input voltage at which the LT3575 will operate. At a voltage below ~0.7V, the part draws no quiescent current. (See Datasheet)", 7 SS (in) "Soft-Start Pin. Place a soft-start capacitor here to limit start-up inrush current and output voltage ramp rate. Switching starts when the voltage at this pin reaches ~0.7V.", 8 RILIM (in) "Maximum Current Limit Adjust Pin. A resistor should be tied to this pin to ground to set the current limit. Use a 10k resistor for the full current capabilities of the switch.", 9 VC "Compensation Pin for Internal Error Amplifier. Connect a series RC from this pin to ground to compensate the switching regulator. A 100pF capacitor in parallel helps eliminate noise.", 10 RFB (in) "Input Pin for External Feedback Resistor. This pin is connected to the transformer primary (VSW). The ratio of this resistor to the RREF resistor, times the internal bandgap reference, determines the output voltage (plus the (See Datasheet)", 11 RREF (in) "Input Pin for External Ground-Referred Reference Resistor. This resistor should be in the range of 6k, but for convenience, need not be precisely this value. For nonisolated applications, a traditional resistor voltage (See Datasheet)", 12 TC "Output Voltage Temperature Compensation. Connect a resistor to ground to produce a current proportional to absolute temperature to be sourced into the RREF node. ITC = 0.55V/RTC.", 13 TEST (in) "This pin is used for testing purposes only and must be connected to ground for the part to operate properly.", 14 GND (power) "Ground. The exposed pad of the package provides both electrical contact to ground and good thermal contact to the printed circuit board. The exposed pad must be soldered to the circuit board for proper operation and should (See Datasheet)", 15 NC "No Connect Pins. Can be left open or connected to any ground plane.", 16 NC "No Connect Pins. Can be left open or connected to any ground plane.", 17 EP (power) "Ground. The exposed pad of the package provides both electrical contact to ground and good thermal contact to the printed circuit board. The exposed pad must be soldered to the circuit board for proper operation and should (See Datasheet)"